# EAGLE library part SI4688-A10-GM (library SI4688-A10-GM)
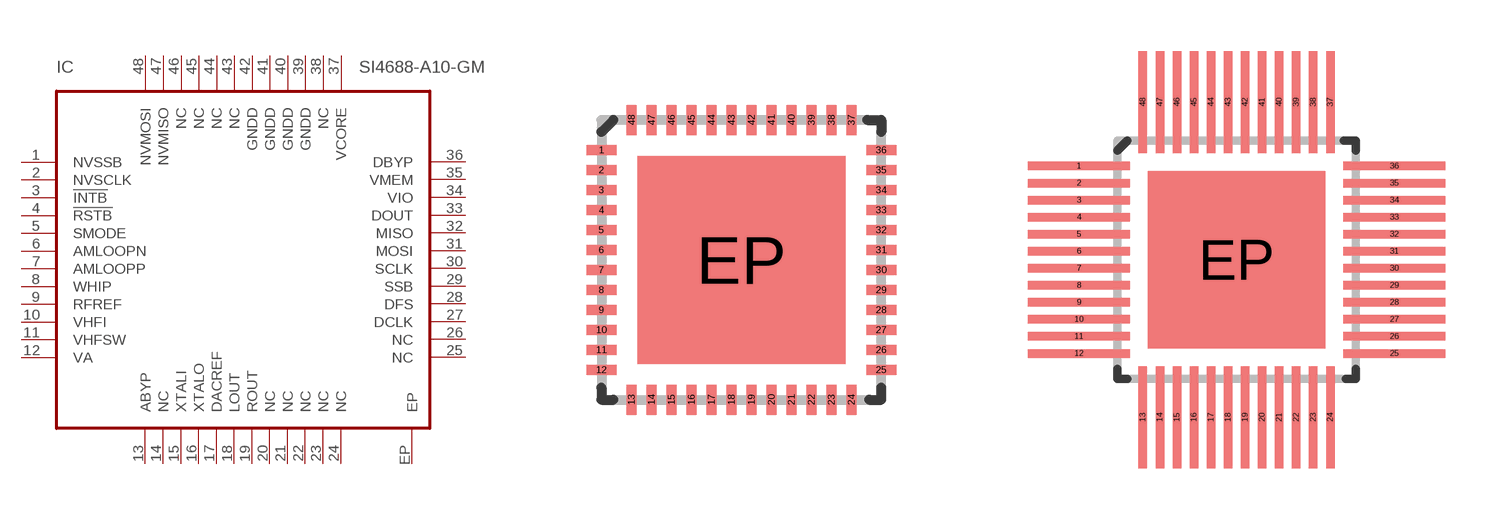
[diagram p0: symbol with the pads of QFN48_7X7; footprints QFN48_7X7, QFN48_7X7_3MM]

Designator prefix IC

## SI4688-A10-GM  [QFN48_7X7]
1  NVSSB  out
2  NVSCLK  out
3  !INTB!  out
4  !RSTB!  in
5  SMODE  in
6  AMLOOPN  pwr
7  AMLOOPP  pwr
8  WHIP  pwr
9  RFREF  pwr
10  VHFI  in
11  VHFSW  out
12  VA  pwr
13  ABYP  pwr
14  NC  nc
15  XTALI  in
16  XTALO  out
17  DACREF  pwr
18  LOUT  out
19  ROUT  out
20  NC  nc
21  NC  nc
22  NC  nc
23  NC  nc
24  NC  nc
25  NC  nc
26  NC  nc
27  DCLK
28  DFS
29  SSB  in
30  SCLK  in
31  MOSI
32  MISO
33  DOUT  out
34  VIO  pwr
35  VMEM  pwr
36  DBYP  pwr
37  VCORE  pwr
38  NC  nc
39  GNDD  pwr
40  GNDD  pwr
41  GNDD  pwr
42  GNDD  pwr
43  NC  nc
44  NC  nc
45  NC  nc
46  NC  nc
47  NVMISO  in
48  NVMOSI  out
EP  EP

## SI4688-A10-GM_3MM  [QFN48_7X7_3MM]
Pads as for QFN48_7X7

## SI4688-A10-GMEVAL_BREAKOUT  [QFN48-BREAKOUT]
Pads as for QFN48_7X7

## Footprint QFN48_7X7 (pad centres in mm)
smd 0.75 x 0.25: 1 -3.5,2.75; 2 -3.5,2.25; 3 -3.5,1.75; 4 -3.5,1.25; 5 -3.5,0.75; 6 -3.5,0.25; 7 -3.5,-0.25; 8 -3.5,-0.75; 9 -3.5,-1.25; 10 -3.5,-1.75; 11 -3.5,-2.25; 12 -3.5,-2.75; 25 3.5,-2.75; 26 3.5,-2.25; 27 3.5,-1.75; 28 3.5,-1.25; 29 3.5,-0.75; 30 3.5,-0.25; 31 3.5,0.25; 32 3.5,0.75; 33 3.5,1.25; 34 3.5,1.75; 35 3.5,2.25; 36 3.5,2.75
smd 0.25 x 0.75: 13 -2.75,-3.5; 14 -2.25,-3.5; 15 -1.75,-3.5; 16 -1.25,-3.5; 17 -0.75,-3.5; 18 -0.25,-3.5; 19 0.25,-3.5; 20 0.75,-3.5; 21 1.25,-3.5; 22 1.75,-3.5; 23 2.25,-3.5; 24 2.75,-3.5; 37 2.75,3.5; 38 2.25,3.5; 39 1.75,3.5; 40 1.25,3.5; 41 0.75,3.5; 42 0.25,3.5; 43 -0.25,3.5; 44 -0.75,3.5; 45 -1.25,3.5; 46 -1.75,3.5; 47 -2.25,3.5; 48 -2.75,3.5
smd 5.2 x 5.2: EP 0,0

## Footprint QFN48_7X7_3MM (pad centres in mm)
smd 3 x 0.25: 1 -4.625,2.75; 2 -4.625,2.25; 3 -4.625,1.75; 4 -4.625,1.25; 5 -4.625,0.75; 6 -4.625,0.25; 7 -4.625,-0.25; 8 -4.625,-0.75; 9 -4.625,-1.25; 10 -4.625,-1.75; 11 -4.625,-2.25; 12 -4.625,-2.75; 25 4.625,-2.75; 26 4.625,-2.25; 27 4.625,-1.75; 28 4.625,-1.25; 29 4.625,-0.75; 30 4.625,-0.25; 31 4.625,0.25; 32 4.625,0.75; 33 4.625,1.25; 34 4.625,1.75; 35 4.625,2.25; 36 4.625,2.75
smd 0.25 x 3: 13 -2.75,-4.625; 14 -2.25,-4.625; 15 -1.75,-4.625; 16 -1.25,-4.625; 17 -0.75,-4.625; 18 -0.25,-4.625; 19 0.25,-4.625; 20 0.75,-4.625; 21 1.25,-4.625; 22 1.75,-4.625; 23 2.25,-4.625; 24 2.75,-4.625; 37 2.75,4.625; 38 2.25,4.625; 39 1.75,4.625; 40 1.25,4.625; 41 0.75,4.625; 42 0.25,4.625; 43 -0.25,4.625; 44 -0.75,4.625; 45 -1.25,4.625; 46 -1.75,4.625; 47 -2.25,4.625; 48 -2.75,4.625
smd 5.2 x 5.2: EP 0,0

## Footprint QFN48-BREAKOUT (pad centres in mm)
drill 0.95 square: 1 -11.43,6.35
drill 0.95: 2 -8.89,6.35; 3 -11.43,3.81; 4 -8.89,3.81; 5 -11.43,1.27; 6 -8.89,1.27; 7 -11.43,-1.27; 8 -8.89,-1.27; 9 -11.43,-3.81; 10 -8.89,-3.81; 11 -11.43,-6.35; 12 -8.89,-6.35; 13 -6.35,-11.43; 14 -6.35,-8.89; 15 -3.81,-11.43; 16 -3.81,-8.89; 17 -1.27,-11.43; 18 -1.27,-8.89; 19 1.27,-11.43; 20 1.27,-8.89; 21 3.81,-11.43; 22 3.81,-8.89; 23 6.35,-11.43; 24 6.35,-8.89; 25 11.43,-6.35; 26 8.89,-6.35; 27 11.43,-3.81; 28 8.89,-3.81; 29 11.43,-1.27; 30 8.89,-1.27; 31 11.43,1.27; 32 8.89,1.27; 33 11.43,3.81; 34 8.89,3.81; 35 11.43,6.35; 36 8.89,6.35; 37 6.35,11.43; 38 6.35,8.89; 39 3.81,11.43; 40 3.81,8.89; 41 1.27,11.43; 42 1.27,8.89; 43 -1.27,11.43; 44 -1.27,8.89; 45 -3.81,11.43; 46 -3.81,8.89; 47 -6.35,11.43; 48 -6.35,8.89
smd 0.635 x 0.635 bottom: EP 3.81,11.43